# Altium schematic symbol library SCH - POWER - LINEAR VREG - TI TPS7B8225-Q1DGN.SchLib: 1 symbol
Pins are listed as number, name and electrical type; pins without a type are passive.

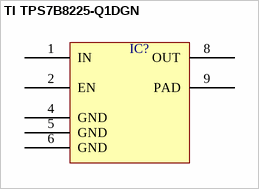
[diagram p0: symbol TI TPS7B8225-Q1DGN]

## TI TPS7B8225-Q1DGN
designator IC?  (value not drawn)
pins: 1 IN, 2 EN, 4 GND, 5 GND, 6 GND, 8 OUT, 9 PAD